# Altium schematic symbol library LOGIC GATES.SchLib: 15 symbols (part 2 of 2)
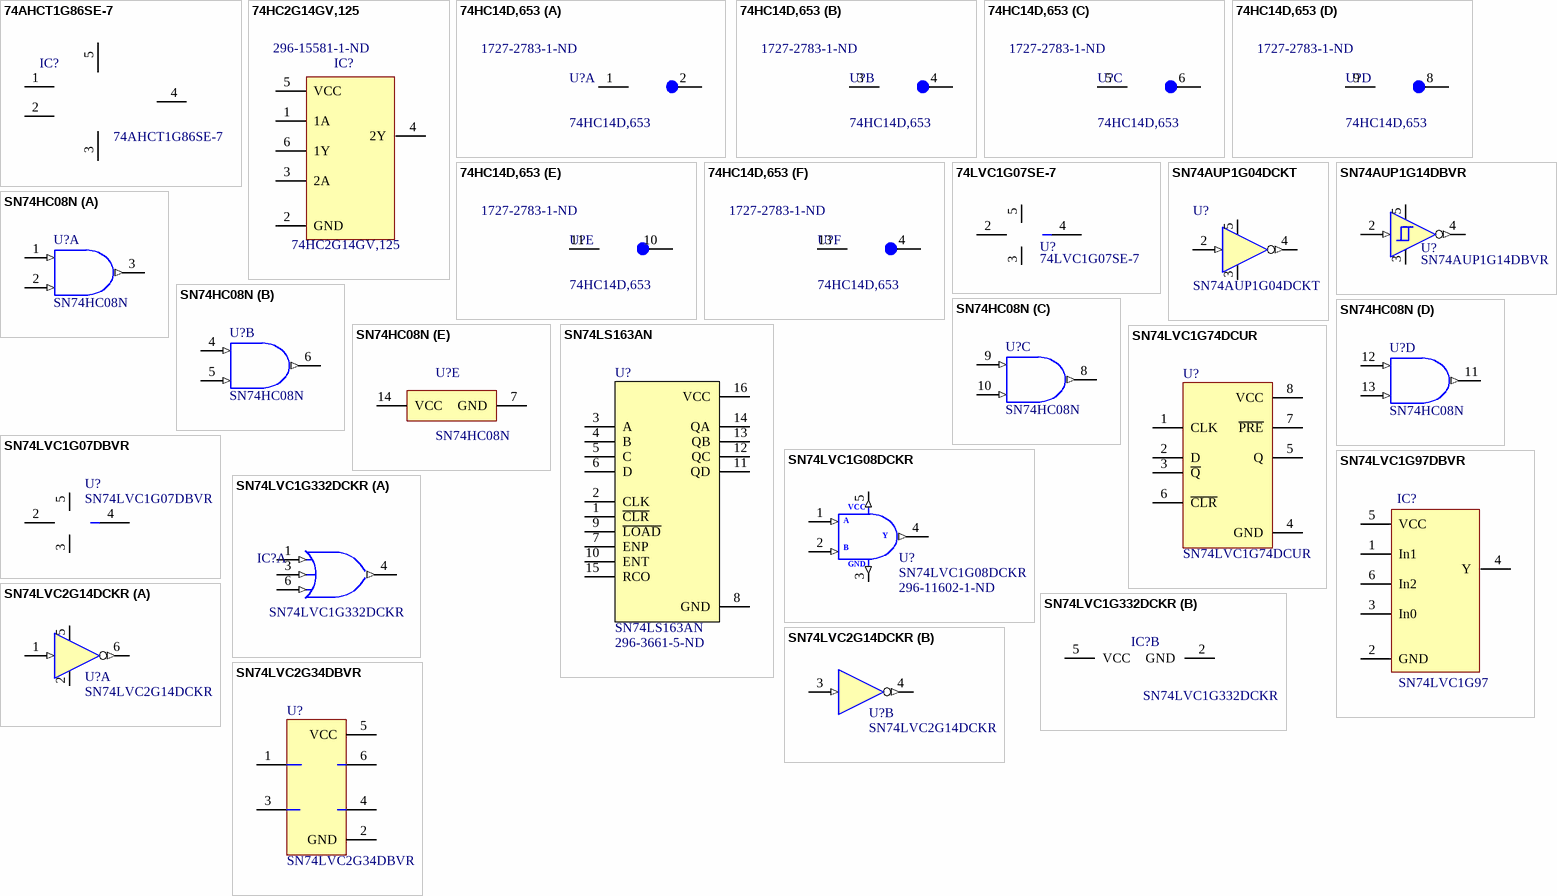
[diagram p1: symbols 74AHCT1G86SE-7 to SN74LVC2G34DBVR]

## SN74LVC2G34DBVR
designator U?
32mA 1 1.65V~5.5V 32mA 2 SOT-23-6 Buffer/Driver/Transceiver ROHS; Manufacturer: Texas Instruments; Manufacturer Lifecycle Status: ACTIVE; High Level Output Current: -32mA; Logic Function: Buffer, Inverting; Max Supply Voltage: 5.5V; Min Supply Voltage: 1.65V; Nominal Supply Current: 250mA; Number of Bits: 2; Number of Bits per Element: 1; Polarity: Non-Inverting; Propagation Delay: 3.2ns; Quiescent Current: 10µA; Schmitt Trigger Input: No; Turn-On Delay Time: 8.6ns; Supplier: DigiKey; Supplier Part Number: 296-13496-1-ND; Manufacturer Part Number: SN74LVC2G34DBVR; RoHS: Compliant; Category: Buffers, Drivers and Transceivers; Stock: 20670; Pricing: 1=0,65, 10=0,459, 25=0,4116, 100=0,3595, 250=0,33472, 500=0,31974, 1000=0,31365 (USD); Case/Package: SOT-23; Contact Plating: Tin; Height: 0m; Lead Free: Lead Free; Length: 2.9mm; Lifecycle Status: Production; Low Level Output Current: 32mA; Max Operating Temperature: 125°C; Max Output current: 32mA; Min Operating Temperature: -40°C; Mounting Technology: Surface Mount; Number of Channels: 2; Number of Circuits: 2; Number of Elements: 2; Number of Gates: 2; Number of Input Lines: 2; Number of Inputs: 2; Number of Output Lines: 2; Number of Outputs: 2; Pins: 6; Output Current: 32mA; Packaging: Cut Tape; Radiation Hardening: No; REACH SVHC: No; Schedule B: 8542390000, 8542390000|8542390000|8542390000|8542390000|8542390000|8542390000|8542390000|8542390000|8542390000|8542390000|8542390000|8542390000|8542390000|8542390000|8542390000|8542390000|8542390000|8542390000, 8542390000|8542390000|8542390000|8542390000|8542390000|8542390000|8542390000|8542390000|8542390000|8542390000|8542390000|8542390000|8542390000|8542390000|8542390000|8542390000|8542390000|8542390000|8542390000, 8542390000|8542390000|8542390000|8542390000|8542390000|8542390000|8542390000|8542390000|8542390000|8542390000|8542390000|8542390000|8542390000|8542390000|8542390000|8542390000|8542390000|8542390000|8542390000|8542390000; Termination: SMD/SMT; Thickness: 1.2mm; Width: 1.6mm; ComponentLink1URL: https://sigma.octopart.com:443/182282880/technical_drawing/Texas-Instruments-SN74LVC2G34DBVR.pdf?src-supplier=Texas+Instruments; ComponentLink1Description: https://sigma.octopart.com:443/182282880/technical_drawing/Texas-Instruments-SN74LVC2G34DBVR.pdf?src-supplier=Texas+Instruments; ComponentLink2URL: https://octopart.com:443/opatz8j6/c1?t=fOR2F-vLrMn6wVkwbeIgMP9sx7LaTFduZT83OOm3QLMGiB8ECMFJ6u_hPhXXL6T9KdT8-0jF0BobQCiP11p8lb6U3ihzS0FE5tR9neUtkv4d6DChDDqWHSE1afkGPI2Gvk7Da41QUY5-BtOxfWZlMTvabAagCyB0XupbctkeNgJH82_KmZLt2-Gvq07Z0EwxlUwr5llZMyybqAc_TJ-CqFlr7vIsU37HUBBbqfYAfjJ0WWzochIWZ7MvAtINZLifTH5xyVsL1ahgESsVUUKh7XWANT-EhpxeU313b4QW_XLUcdFLHALwomS5ss2sSVd2ujYgu2fDToTAVhxtlHmvIZbcH8Sbk-YG2-VOaBttK3jIXZjrlV9QrFwose19_-LYJ8i9fLiTSg&src-supplier=Texas+Instruments; ComponentLink2Description: https://octopart.com:443/opatz8j6/c1?t=fOR2F-vLrMn6wVkwbeIgMP9sx7LaTFduZT83OOm3QLMGiB8ECMFJ6u_hPhXXL6T9KdT8-0jF0BobQCiP11p8lb6U3ihzS0FE5tR9neUtkv4d6DChDDqWHSE1afkGPI2Gvk7Da41QUY5-BtOxfWZlMTvabAagCyB0XupbctkeNgJH82_KmZLt2-Gvq07Z0EwxlUwr5llZMyybqAc_TJ-CqFlr7vIsU37HUBBbqfYAfjJ0WWzochIWZ7MvAtINZLifTH5xyVsL1ahgESsVUUKh7XWANT-EhpxeU313b4QW_XLUcdFLHALwomS5ss2sSVd2ujYgu2fDToTAVhxtlHmvIZbcH8Sbk-YG2-VOaBttK3jIXZjrlV9QrFwose19_-LYJ8i9fLiTSg&src-supplier=Texas+Instruments; ComponentLink3URL: https://sigma.octopart.com:443/179253514/technical_drawing/Texas-Instruments-SN74LVC2G34DBVR.pdf?src-supplier=Texas+Instruments; ComponentLink3Description: https://sigma.octopart.com:443/179253514/technical_drawing/Texas-Instruments-SN74LVC2G34DBVR.pdf?src-supplier=Texas+Instruments; ComponentLink4URL: https://sigma.octopart.com:443/177332312/technical_drawing/Texas-Instruments-SN74LVC2G34DBVR.pdf?src-supplier=Texas+Instruments; ComponentLink4Description: https://sigma.octopart.com:443/177332312/technical_drawing/Texas-Instruments-SN74LVC2G34DBVR.pdf?src-supplier=Texas+Instruments; ComponentLink5URL: https://sigma.octopart.com:443/175570407/technical_drawing/Texas-Instruments-SN74LVC2G34DBVR.pdf?src-supplier=Texas+Instruments; ComponentLink5Description: https://sigma.octopart.com:443/175570407/technical_drawing/Texas-Instruments-SN74LVC2G34DBVR.pdf?src-supplier=Texas+Instruments; ComponentLink6URL: https://sigma.octopart.com:443/154719501/technical_drawing/Texas-Instruments-SN74LVC2G34DBVR.pdf?src-supplier=Texas+Instruments; ComponentLink6Description: https://sigma.octopart.com:443/154719501/technical_drawing/Texas-Instruments-SN74LVC2G34DBVR.pdf?src-supplier=Texas+Instruments; ComponentLink7URL: https://datasheet.octopart.com:443/SN74LVC2G34DBVR-Texas-Instruments-datasheet-37732810.pdf?src-supplier=Texas+Instruments; ComponentLink7Description: https://datasheet.octopart.com:443/SN74LVC2G34DBVR-Texas-Instruments-datasheet-37732810.pdf?src-supplier=Texas+Instruments; ComponentLink8URL: https://sigma.octopart.com:443/49249327/technical_drawing/Texas-Instruments-SN74LVC2G34DBVR.pdf?src-supplier=Texas+Instruments; ComponentLink8Description: https://sigma.octopart.com:443/49249327/technical_drawing/Texas-Instruments-SN74LVC2G34DBVR.pdf?src-supplier=Texas+Instruments; ComponentLink9URL: https://datasheet.octopart.com:443/SN74LVC2G34DBVR-Texas-Instruments-datasheet-21256568.pdf?src-supplier=Newark; ComponentLink9Description: https://datasheet.octopart.com:443/SN74LVC2G34DBVR-Texas-Instruments-datasheet-21256568.pdf?src-supplier=Newark; ComponentLink10URL: https://datasheet.octopart.com:443/SN74LVC2G34DBVR-Texas-Instruments-datasheet-10092724.pdf?src-supplier=Newark; ComponentLink10Description: https://datasheet.octopart.com:443/SN74LVC2G34DBVR-Texas-Instruments-datasheet-10092724.pdf?src-supplier=Newark; ComponentLink11URL: https://datasheet.octopart.com:443/SN74LVC2G34DBVR-Texas-Instruments-datasheet-8514788.pdf?src-supplier=Newark; ComponentLink11Description: https://datasheet.octopart.com:443/SN74LVC2G34DBVR-Texas-Instruments-datasheet-8514788.pdf?src-supplier=Newark; ComponentLink12URL: https://datasheet.octopart.com:443/SN74LVC2G34DBVR-Texas-Instruments-datasheet-5400671.pdf?src-supplier=Newark; ComponentLink12Description: https://datasheet.octopart.com:443/SN74LVC2G34DBVR-Texas-Instruments-datasheet-5400671.pdf?src-supplier=Newark; ComponentLink13URL: https://datasheet.octopart.com:443/SN74LVC2G34DBVR-Texas-Instruments-datasheet-27844360.pdf?src-supplier=Newark; ComponentLink13Description: https://datasheet.octopart.com:443/SN74LVC2G34DBVR-Texas-Instruments-datasheet-27844360.pdf?src-supplier=Newark; ComponentLink14URL: https://datasheet.octopart.com:443/SN74LVC2G34DBVR-Texas-Instruments-datasheet-153323.pdf?src-supplier=Mouser; ComponentLink14Description: https://datasheet.octopart.com:443/SN74LVC2G34DBVR-Texas-Instruments-datasheet-153323.pdf?src-supplier=Mouser; ComponentLink15URL: https://datasheet.octopart.com:443/SN74LVC2G34DBVR-Texas-Instruments-datasheet-17022364.pdf?src-supplier=Upverter; ComponentLink15Description: https://datasheet.octopart.com:443/SN74LVC2G34DBVR-Texas-Instruments-datasheet-17022364.pdf?src-supplier=Upverter; ComponentLink16URL: https://datasheet.octopart.com:443/SN74LVC2G34DBVR-Texas-Instruments-datasheet-62088901.pdf?src-supplier=Farnell; ComponentLink16Description: https://datasheet.octopart.com:443/SN74LVC2G34DBVR-Texas-Instruments-datasheet-62088901.pdf?src-supplier=Farnell; ComponentLink17URL: https://datasheet.octopart.com:443/SN74LVC2G34DBVR-Texas-Instruments-datasheet-11797516.pdf?src-supplier=Farnell; ComponentLink17Description: https://datasheet.octopart.com:443/SN74LVC2G34DBVR-Texas-Instruments-datasheet-11797516.pdf?src-supplier=Farnell; ComponentLink18URL: https://datasheet.octopart.com:443/SN74LVC2G34DBVR-Texas-Instruments-datasheet-10408236.pdf?src-supplier=Farnell; ComponentLink18Description: https://datasheet.octopart.com:443/SN74LVC2G34DBVR-Texas-Instruments-datasheet-10408236.pdf?src-supplier=Farnell; ComponentLink19URL: https://datasheet.octopart.com:443/SN74LVC2G34DBVR-Texas-Instruments-datasheet-159116971.pdf?src-supplier=SHENGYU+ELECTRONICS; ComponentLink19Description: https://datasheet.octopart.com:443/SN74LVC2G34DBVR-Texas-Instruments-datasheet-159116971.pdf?src-supplier=SHENGYU+ELECTRONICS; ComponentLink20URL: https://datasheet.octopart.com:443/SN74LVC2G34DBVR-Texas-Instruments-datasheet-13497.pdf?src-supplier=DigiKey; ComponentLink20Description: https://datasheet.octopart.com:443/SN74LVC2G34DBVR-Texas-Instruments-datasheet-13497.pdf?src-supplier=DigiKey; ComponentLink21URL: https://datasheet.octopart.com:443/SN74LVC2G34DBVR-Texas-Instruments-datasheet-165804506.pdf?src-supplier=LCSC; ComponentLink21Description: https://datasheet.octopart.com:443/SN74LVC2G34DBVR-Texas-Instruments-datasheet-165804506.pdf?src-supplier=LCSC; ComponentLink22URL: https://datasheet.octopart.com:443/SN74LVC2G34DBVR-Texas-Instruments-datasheet-86786206.pdf?src-supplier=TME; ComponentLink22Description: https://datasheet.octopart.com:443/SN74LVC2G34DBVR-Texas-Instruments-datasheet-86786206.pdf?src-supplier=TME; ComponentLink23URL: https://datasheet.octopart.com:443/SN74LVC2G34DBVR-Texas-Instruments-datasheet-14144471.pdf?src-supplier=iiiC; ComponentLink23Description: https://datasheet.octopart.com:443/SN74LVC2G34DBVR-Texas-Instruments-datasheet-14144471.pdf?src-supplier=iiiC; ComponentLink24URL: https://datasheet.octopart.com:443/SN74LVC2G34DBVR-Texas-Instruments-datasheet-8441483.pdf?src-supplier=Jameco; ComponentLink24Description: https://datasheet.octopart.com:443/SN74LVC2G34DBVR-Texas-Instruments-datasheet-8441483.pdf?src-supplier=Jameco; ComponentLink25URL: http://sigma.octopart.com:80/reach_statement/Texas-Instruments-company-64.pdf?src-supplier=Compliance+Statements; ComponentLink25Description: http://sigma.octopart.com:80/reach_statement/Texas-Instruments-company-64.pdf?src-supplier=Compliance+Statements; ComponentLink26URL: http://sigma.octopart.com:80/conflict_mineral_statement/Texas-Instruments-company-63.pdf?src-supplier=Compliance+Statements; ComponentLink26Description: http://sigma.octopart.com:80/conflict_mineral_statement/Texas-Instruments-company-63.pdf?src-supplier=Compliance+Statements
footprint SOT95P280X145-6N (SOT23, 6-Leads, Body 2,90x2,80mm, Pitch 0,95mm, IPC Medium Density)
pins: 1 1A, 2 GND, 3 2A, 4 2Y, 5 VCC, 6 1Y